# Altium footprint library MAL219691204E3.PcbLib: 1 footprints
Each footprint in its own frame and in the unit in brackets; x right, y up, seen from the top. Pads: shape width x height; smd on the part's side, far side on the other; paste and mask are expansions set on the pad; w line width, h text height; cw(c..) or ccw(c..) is an arc to the next point about the centre after c.
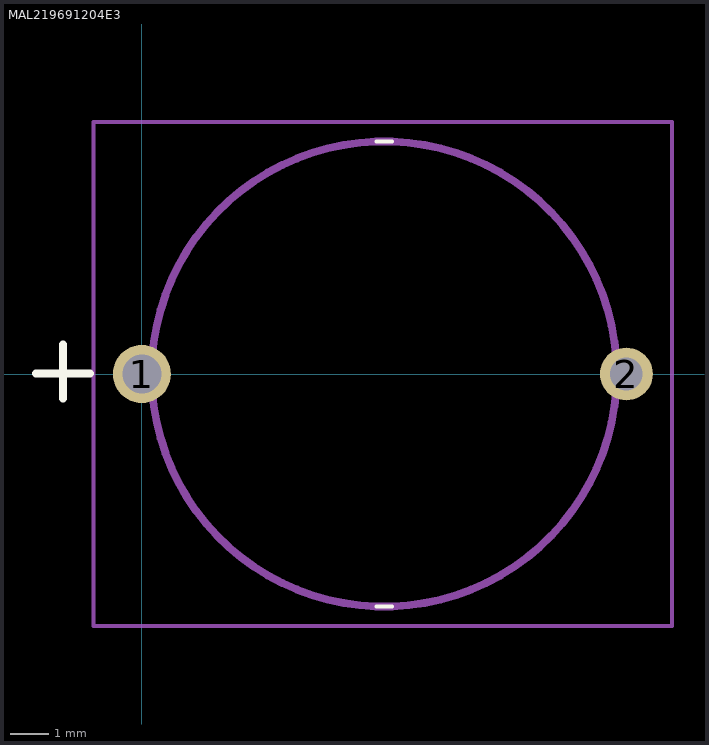
[diagram p0: the footprint, top view; thin cyan lines are the x and y axes]

## MAL219691204E3 [mm]
pads (2):
  round 1.5 hole 1: 1(0,0)
  round 1.365 hole 0.84: 2(12.5,0)
Top Overlay:
  lines w0.1: 6.05,-6 6.45,-6 ; 6.05,6 6.45,6
  lines w0.203: -2.736,0.015 -1.339,0.015 ; -2.032,-0.635 -2.032,0.762
Mechanical 15:
  lines w0.2: 0.25,0 cw(c6.25,0) 12.25,0 cw(c6.25,0) 0.25,0
Mechanical 20:
  lines w0.1: -1.25,-6.5 -1.25,6.5 13.682,6.5 13.682,-6.5 -1.25,-6.5
3D body "MAL219691204E3.stp": height 5.8, standoff -4.65, extent -10,-3.376 10,3.376